# Altium schematic symbol library CONN 1POS.SchLib: 1 symbol
Pins are listed as number, name and electrical type; pins without a type are passive.

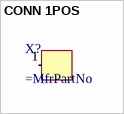
[diagram p0: symbol CONN 1POS]

## CONN 1POS
designator X?
1 Pin Connector
pins: 1 (in)